# Altium footprint library R_1020_25250.PcbLib: 1 footprints
Each footprint in its own frame and in the unit in brackets; x right, y up, seen from the top. Pads: shape width x height; smd on the part's side, far side on the other; paste and mask are expansions set on the pad; w line width, h text height; cw(c..) or ccw(c..) is an arc to the next point about the centre after c.
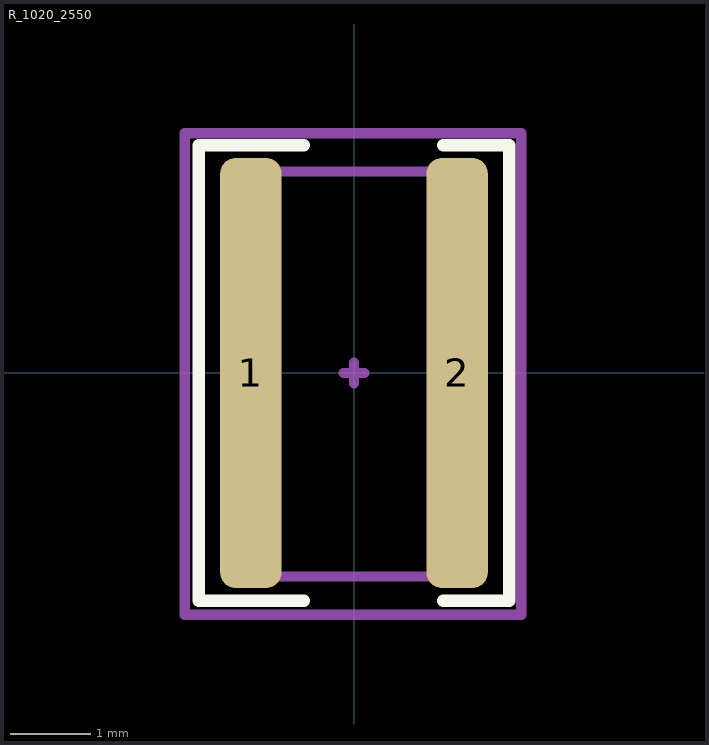
[diagram p0: the footprint, top view; thin cyan lines are the x and y axes]

## R_1020_2550 [mil]
pads (2):
  rrect50% 29.92x210 smd mask+1.97: 1(-50.41,0) 2(50.41,0)
Top Overlay:
  lines w6: -24.41,-111.22 -75.79,-111.22 -75.79,111.22 -24.41,111.22 ; 43.59,-111.22 75.79,-111.22 75.79,111.22 43.59,111.22
Assembly Top:
  lines w5: -5,0 5,0 ; 0,-5 0,5 ; -50.2,-99.41 50.2,-99.41 50.2,98.43 -50.2,98.43 -50.2,-99.41
Courtyard Top:
  lines w5: -82.68,-118.11 -82.68,117.13 81.69,117.13 81.69,-118.11 -82.68,-118.11
3D body "User Library-Chip Resistor2.STEP": height 27.56, standoff 0, extent -49.21,-98.42 49.22,98.43